# EAGLE library part TPS2113A (library FaBo-Switch)
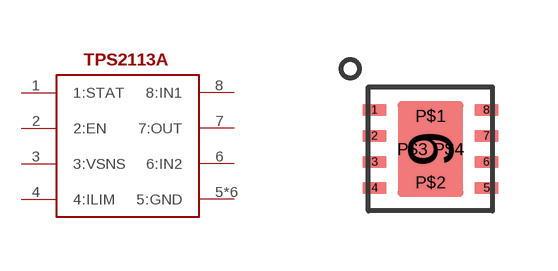
[diagram p9: symbol with the pads of VSON8; footprint VSON8]

Designator prefix -

## TPS2113A  [VSON8]
1  1:STAT
2  2:EN
3  3:VSNS
4  4:ILIM
5  5:GND
6  6:IN2
7  7:OUT
8  8:IN1
9  5:GND
P$1  5:GND
P$2  5:GND
P$3  5:GND
P$4  5:GND

## Footprint VSON8 (pad centres in mm)
smd 0.6 x 0.3: 1 -1.4,0.975; 2 -1.4,0.325; 3 -1.4,-0.325; 4 -1.4,-0.975; 5 1.4,-0.975; 6 1.4,-0.325; 7 1.4,0.325; 8 1.4,0.975
smd 1.65 x 2.4: 9 0,0
drill 0.2: P$1 0,0.83; P$2 0,-0.83; P$3 -0.455,0; P$4 0.455,0